# Altium footprint library YarnControl_Mainboard_v1.4.PcbLib: 32 footprints (part 2 of 2)
Each footprint in its own frame and in the unit in brackets; x right, y up, seen from the top. Pads: shape width x height; smd on the part's side, far side on the other; paste and mask are expansions set on the pad; w line width, h text height; cw(c..) or ccw(c..) is an arc to the next point about the centre after c.
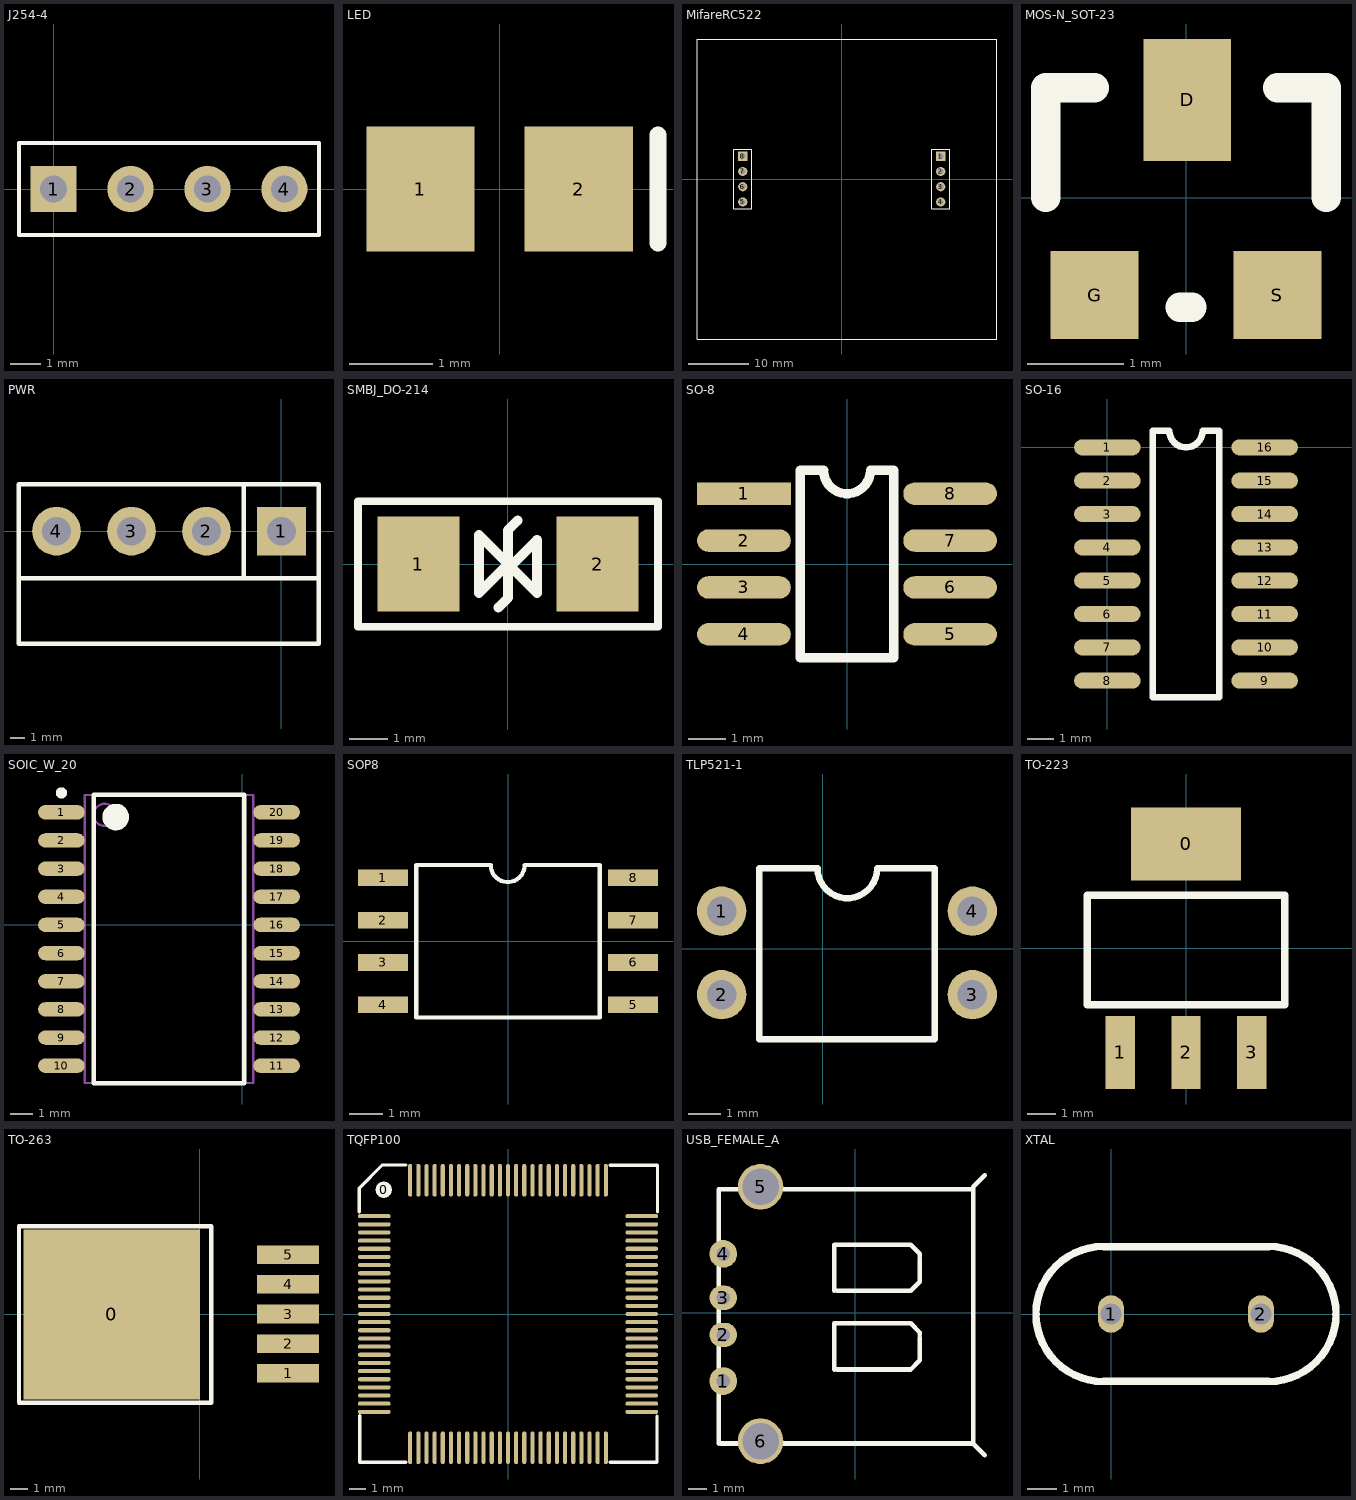
[diagram p1: the footprints below, top view; thin cyan lines are the x and y axes]

## J254-4 [mil]
pads (4):
  rect 60x60 hole 35: 1(0,0)
  round 60 hole 35: 2(100,0) 3(200,0) 4(300,0)
Top Overlay:
  lines w5: -45,-60 -45,60 345,60 345,-60 -45,-60

## LED [mm]
pads (2):
  rect 1.3x1.5 smd: 1(-0.95,0) 2(0.95,0)
Top Overlay:
  lines w0.2: 1.9,-0.65 1.9,0.65

## MifareRC522 [mil]
pads (8):
  rect 60x60 hole 35: 1(650,150) 8(-650,150)
  round 60 hole 35: 2(650,50) 3(650,-50) 4(650,-150) 5(-650,-150) 6(-650,-50) 7(-650,50)
Top Overlay:
  lines w5: -950,-1050 1018.9,-1050 1018.9,920.08 -950,920.08 -950,-1050 ; -708.27,-195 -590.16,-195 -590.16,195 -708.27,195 -708.27,-195 ; 590.94,-195 590.94,195 709.06,195 709.06,-195 590.94,-195

## MOS-N_SOT-23 [mil]
pads (3):
  rect 36x50 smd: D(0.5,40)
  rect 36x36 smd: G(-37.5,-40) S(37.5,-40)
Top Overlay:
  lines w12: -57.5,0 -57.5,45 -37.5,45 ; -2.5,-45 2.5,-45 ; 37.5,45 57.5,45 57.5,0

## PWR [mil]
pads (4):
  rect 130x130 hole 76.77: 1(0,0)
  round 130 hole 76.77: 2(-200,0) 3(-400,0) 4(-600,0)
Top Overlay:
  lines w12: -700,-125 100,-125 ; -100,-125 -100,125 ; -700,-300 -700,125 100,125 100,-300 -700,-300

## SMBJ_DO-214 [mm]
pads (2):
  rect 2.16x2.5 smd: 1(-2.35,0) 2(2.35,0)
Top Overlay:
  lines w0.2: -3.937,-1.651 -3.937,-0.609 -3.937,1.651 3.937,1.651 3.937,-1.651 -3.937,-1.651
  lines w0.254: -0.635,0.635 0,0 0.635,-0.635 ; -0.254,-1.143 0,-0.889 0,0.889 0.254,1.143 ; -0.127,-0.127 -0.762,-0.762 -0.762,0.762 -0.381,0.381 0.762,-0.762 0.762,0.635 0.127,0
3D body: height 2.5, standoff 0, extent -2.8,-1.95 2.8,1.95

## SO-8 [mil]
pads (8):
  rect 100x24 smd: 1(-110,75)
  oval 100x24 smd: 2(-110,25) 3(-110,-25) 4(-110,-75) 5(110,-75) 6(110,-25) 7(110,25) 8(110,75)
Top Overlay:
  lines w10: -50,-100 50,-100 50,100 25,100 cw(c0,100) -25,100 -50,100 -50,-100

## SO-16 [mil]
pads (16):
  oval 100x24 smd: 1(0,0) 2(0,-50) 3(0,-100) 4(0,-150) 5(0,-200) 6(0,-250) 7(0,-300) 8(0,-350) 9(236,-350) 10(236,-300) 11(236,-250) 12(236,-200) 13(236,-150) 14(236,-100) 15(236,-50) 16(236,0)
Top Overlay:
  lines w10: 68,-375 168,-375 168,25 143,25 cw(c118,25) 93,25 68,25 68,-375

## SOIC_W_20 [mm]
pads (20):
  oval 2.1x0.65 smd: 1(-8.152,5.08) 2(-8.152,3.81) 3(-8.152,2.54) 4(-8.152,1.27) 5(-8.152,0) 6(-8.152,-1.27) 7(-8.152,-2.54) 8(-8.152,-3.81) 9(-8.152,-5.08) 10(-8.152,-6.35) 11(1.548,-6.35) 12(1.548,-5.08) 13(1.548,-3.81) 14(1.548,-2.54) 15(1.548,-1.27) 16(1.548,0) 17(1.548,1.27) 18(1.548,2.54) 19(1.548,3.81) 20(1.548,5.08)
Top Overlay:
  circle w0.6: c-5.702,4.865 r0.3
  circle w0.25: c-8.152,5.955 r0.125
  lines w0.2: -6.702,-7.135 0.098,-7.135 0.098,5.865 -6.702,5.865 -6.702,-7.135
Mechanical 13:
  circle w0.1: c-6.202,4.965 r0.5
  lines w0.1: -7.102,-7.135 0.498,-7.135 0.498,5.865 -7.102,5.865 -7.102,-7.135
3D body: height 2.5, standoff 0, extent -8.464,-7.135 1.86,5.865

## SOP8 [mm]
pads (8):
  rect 1.5x0.5 smd: 1(-3.75,1.905) 2(-3.75,0.635) 3(-3.75,-0.635) 4(-3.75,-1.905) 5(3.75,-1.905) 6(3.75,-0.635) 7(3.75,0.635) 8(3.75,1.905)
Top Overlay:
  lines w0.127: -2.75,-2.286 -2.75,2.286 -0.518,2.286 ccw(c-0.009,2.286) 0.499,2.286 2.75,2.286 2.75,-2.286 -2.75,-2.286

## TLP521-1 [mm]
pads (4):
  round 1.5 hole 0.9: 1(-3.073,1.143) 2(-3.073,-1.397) 3(4.547,-1.397) 4(4.547,1.143)
Top Overlay:
  lines w0.2: -1.93,-2.757 -1.93,2.443 -0.159,2.443 ccw(c0.747,2.443) 1.652,2.443 3.404,2.443 3.404,-2.757 -1.93,-2.757

## TO-223 [mil]
pads (4):
  rect 150x100 smd: 0(0,142.5)
  rect 40x100 smd: 1(-90,-142.5) 2(0,-142.5) 3(90,-142.5)
Top Overlay:
  lines w10: -135,-77.5 -135,72.5 135,72.5 135,-77.5 -135,-77.5

## TO-263 [mil]
pads (6):
  rect 400x385 smd: 0(-199.95,-1)
  rect 140x42 smd: 1(199.95,-134) 2(199.95,-67) 3(199.95,0) 4(199.95,67) 5(199.95,134)
Top Overlay:
  lines w10: 23.05,199 -409.95,199 -409.95,-201 26.05,-201 26.05,199

## TQFP100 [mm]
pads (101):
  round 1 on Top Overlay: 0(-7.62,7.62)
  oval 2x0.254 smd: 1(-8.2,6) 2(-8.2,5.5) 3(-8.2,5) 4(-8.2,4.5) 5(-8.2,4) 6(-8.2,3.5) 7(-8.2,3) 8(-8.2,2.5) 9(-8.2,2) 10(-8.2,1.5) 11(-8.2,1) 12(-8.2,0.5) 13(-8.2,0) 14(-8.2,-0.5) 15(-8.2,-1) 16(-8.2,-1.5) 17(-8.2,-2) 18(-8.2,-2.5) 19(-8.2,-3) 20(-8.2,-3.5) 21(-8.2,-4) 22(-8.2,-4.5) 23(-8.2,-5) 24(-8.2,-5.5) 25(-8.2,-6) 51(8.2,-6) 52(8.2,-5.5) 53(8.2,-5) 54(8.2,-4.5) 55(8.2,-4) 56(8.2,-3.5) 57(8.2,-3) 58(8.2,-2.5) 59(8.2,-2) 60(8.2,-1.5) 61(8.2,-1) 62(8.2,-0.5) 63(8.2,0) 64(8.2,0.5) 65(8.2,1) 66(8.2,1.5) 67(8.2,2) 68(8.2,2.5) 69(8.2,3) 70(8.2,3.5) 71(8.2,4) 72(8.2,4.5) 73(8.2,5) 74(8.2,5.5) 75(8.2,6)
  oval 0.254x2 smd: 26(-6,-8.2) 27(-5.5,-8.2) 28(-5,-8.2) 29(-4.5,-8.2) 30(-4,-8.2) 31(-3.5,-8.2) 32(-3,-8.2) 33(-2.5,-8.2) 34(-2,-8.2) 35(-1.5,-8.2) 36(-1,-8.2) 37(-0.5,-8.2) 38(0,-8.2) 39(0.5,-8.2) 40(1,-8.2) 41(1.5,-8.2) 42(2,-8.2) 43(2.5,-8.2) 44(3,-8.2) 45(3.5,-8.2) 46(4,-8.2) 47(4.5,-8.2) 48(5,-8.2) 49(5.5,-8.2) 50(6,-8.2) 76(6,8.2) 77(5.5,8.2) 78(5,8.2) 79(4.5,8.2) 80(4,8.2) 81(3.5,8.2) 82(3,8.2) 83(2.5,8.2) 84(2,8.2) 85(1.5,8.2) 86(1,8.2) 87(0.5,8.2) 88(0,8.2) 89(-0.5,8.2) 90(-1,8.2) 91(-1.5,8.2) 92(-2,8.2) 93(-2.5,8.2) 94(-3,8.2) 95(-3.5,8.2) 96(-4,8.2) 97(-4.5,8.2) 98(-5,8.2) 99(-5.5,8.2) 100(-6,8.2)
Top Overlay:
  lines w0.2: -9.119,6.25 -9.119,7.722 -7.696,9.144 -6.25,9.144 ; -9.093,-9.1 -6.25,-9.1 ; -9.093,-9.068 -9.093,-6.235 ; 6.25,-9.1 9.144,-9.1 ; 6.25,9.119 9.169,9.119 9.169,6.25 ; 9.144,-9.093 9.144,-6.261

## USB_FEMALE_A [mil]
pads (6):
  round 60 hole 30: 1(-285.63,-147.91) 4(-285.63,127.09)
  oval 60x52.13 hole 30: 2(-285.63,-47.91) 3(-285.63,32.09)
  round 98.43 hole 78.74: 5(-205,272.09) 6(-205,-277.91)
Top Overlay:
  lines w10: -295.63,-282.91 -295.63,267.09 254.37,267.09 ; -290.63,-282.91 254.37,-282.91 ; -45.63,-122.91 -45.63,-22.91 119.37,-22.91 139.37,-42.91 139.37,-47.91 ; -45.63,47.09 -45.63,147.09 119.37,147.09 139.37,127.09 139.37,122.09 ; -40.63,-122.91 119.37,-122.91 139.37,-102.91 139.37,-52.91 ; -40.63,47.09 119.37,47.09 139.37,67.09 139.37,117.09 ; 279.37,-307.91 254.37,-282.91 ; 279.37,297.09 254.37,272.09 254.37,267.09 ; 254.37,-282.91 254.37,267.09

## XTAL [mil]
pads (2):
  oval 35x50 hole 28: 1(0,0) 2(200,0)
Top Overlay:
  lines w10: -10,-90 cw(c-10,0) -10,90 210,90 cw(c210,0) 210,-90 -10,-90